# EAGLE library part LE33CD-TR (library ST_Microelctronics_By_element14_Batch_1)
Very low drop voltage regulators with inhibit
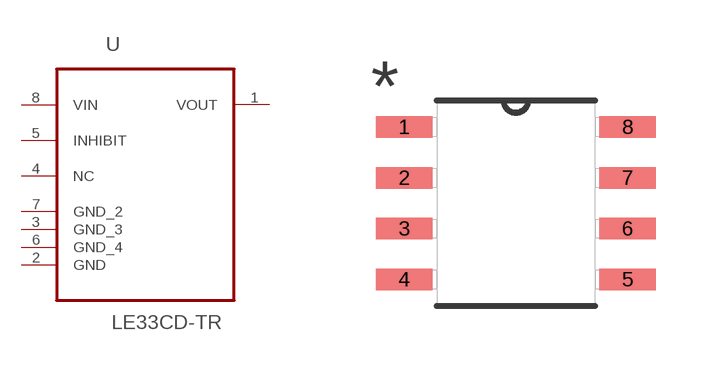
[diagram p65: symbol with the pads of SOIC127P600X175-8N; footprint SOIC127P600X175-8N]

Designator prefix U

## LE33CD-TR (MPN: LE33CD-TR; OC_FARNELL: 1652371; OC_NEWARK: 89K1279; PACKAGE: SOIC-8; SUPPLIER: STMICROELECTRONICS)  [SOIC127P600X175-8N]
1  VOUT  out
2  GND  pas
3  GND_3  pas
4  NC  nc
5  INHIBIT  pas
6  GND_4  pas
7  GND_2  pas
8  VIN  pwr

## Footprint SOIC127P600X175-8N (pad centres in mm)
smd 1.422 x 0.533: 1 -2.794,1.905; 2 -2.794,0.635; 3 -2.794,-0.635; 4 -2.794,-1.905; 5 2.794,-1.905; 6 2.794,-0.635; 7 2.794,0.635; 8 2.794,1.905